# Altium footprint library TDK_Capacitors.PcbLib: 3 footprints
Each footprint in its own frame and in the unit in brackets; x right, y up, seen from the top. Pads: shape width x height; smd on the part's side, far side on the other; paste and mask are expansions set on the pad; w line width, h text height; cw(c..) or ccw(c..) is an arc to the next point about the centre after c.
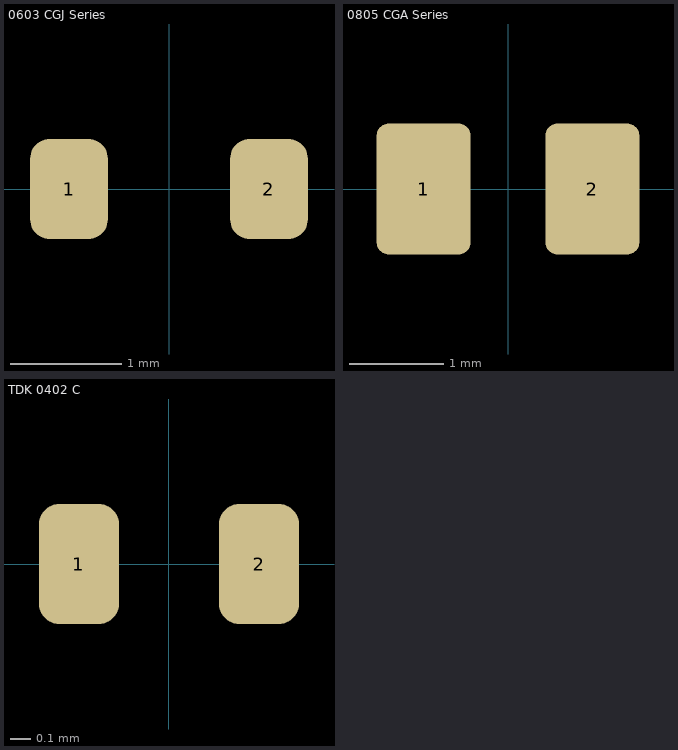
[diagram p0: the footprints below, top view; thin cyan lines are the x and y axes]

## 0603 CGJ Series [mm] "Chip Capacitor, 2-Leads, Body 1.6x0.8mm, IPC Medium Density"
height 0.8
pads (2):
  rrect50% 0.7x0.9 smd: 1(-0.9,0) 2(0.9,0)
3D body "CAP0603.stp": height 0.3, standoff 0, extent -0.8,-0.4 0.8,0.4

## 0805 CGA Series [mm] "Chip Capacitor, Body 2.0x1.2mm, EIA 0805, IPC Medium Density"
height 1.35
pads (2):
  rrect25% 1x1.4 smd: 1(-0.9,0) 2(0.9,0)
3D body "CAP_0805.STEP": height 1.34, standoff -0.01, extent -1.1,-0.725 1.1,0.725

## TDK 0402 C [mm] "Minimal"
height 0.5
pads (2):
  rrect50% 0.4x0.6 smd: 1(-0.45,0) 2(0.45,0)
3D body "CAP0402.stp": height 0.2, standoff 0, extent -0.5,-0.3 0.5,0.3